# Altium footprint library syhaunguyen.PcbLib: 329 footprints (part 11 of 21)
Each footprint in its own frame and in the unit in brackets; x right, y up, seen from the top. Pads: shape width x height; smd on the part's side, far side on the other; paste and mask are expansions set on the pad; w line width, h text height; cw(c..) or ccw(c..) is an arc to the next point about the centre after c.
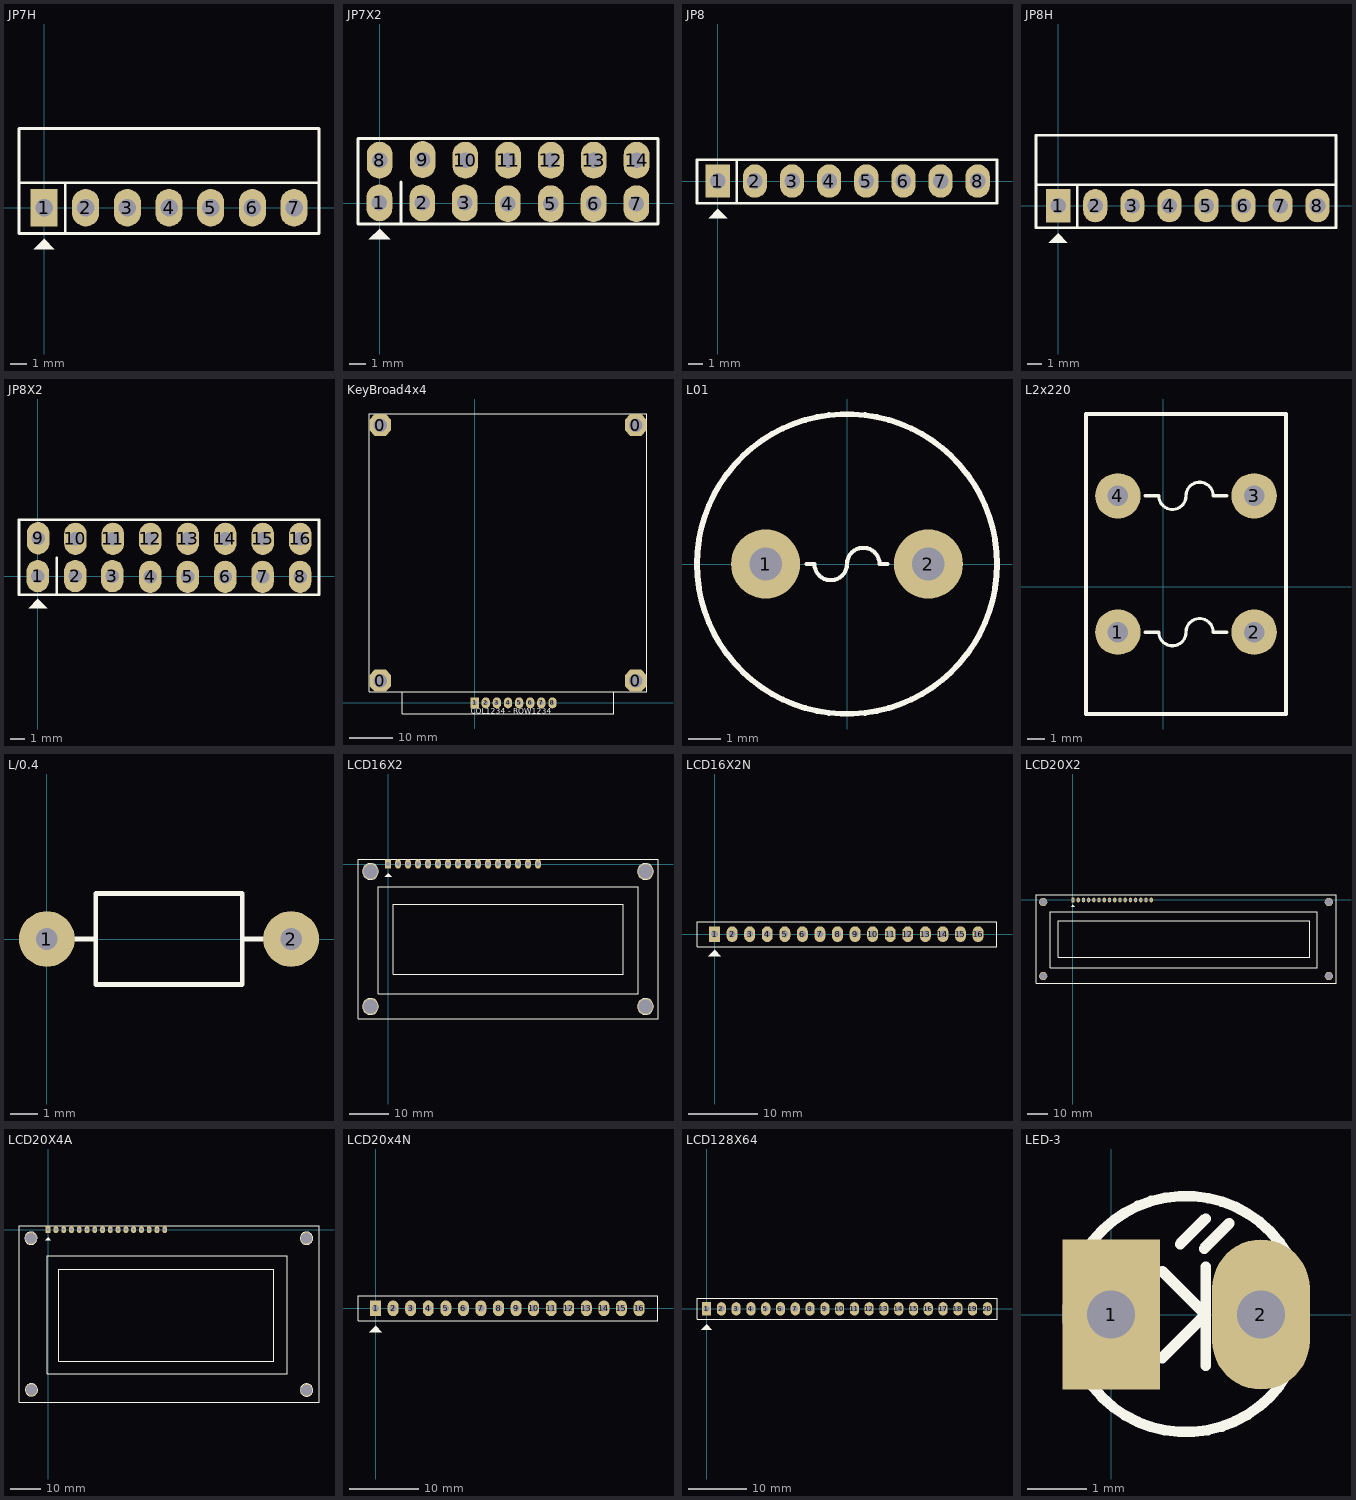
[diagram p10: the footprints below, top view; thin cyan lines are the x and y axes]

## JP7H [mil]
pads (7):
  rect 65x90 hole 42: 1(0,0)
  oval 65x90 hole 42: 2(100,0) 3(200,0) 4(300,0) 5(400,0) 6(500,0) 7(600,0)
Top Overlay:
  region: 0,-75 -25,-100 25,-100
  lines w7: -57,60 660,60 ; -50,60 -60,60 ; 51,-58 51,60 ; -60,60 -60,190 660,190 660,60 ; -60,60 -60,-62 660,-62 660,60
3D body: height 99.03, standoff -93.89, extent -46.06,-24.96 646.07,413.63

## JP7X2 [mil]
pads (14):
  oval 60x86 hole 36: 1(-0.5,0.5) 2(99.5,0.5) 3(198.5,0.5) 4(299.5,-1.5) 5(399.5,-1.5) 6(499.5,-1.5) 7(599.5,-1.5) 8(0,100) 9(100.5,101.5) 10(200,100) 11(300,100) 12(400,100) 13(500,100) 14(600,100)
Top Overlay:
  region: 0,-60 -25,-85 25,-85
  lines w7: 50,-49 50,49 ; -50.5,-49.5 -50.5,50.5 -50.5,150.5 650,150.5 650,-49.5 -50.5,-49.5
3D body: height 335.25, standoff -117.51, extent -49.99,-49.99 650.01,150.01

## JP8 [mil] "JP8"
height 200
pads (8):
  rect 65x90 hole 42: 1(0,0)
  oval 65x90 hole 42: 2(100,0) 3(200,0) 4(300,0) 5(400,0) 6(500,0) 7(600,0) 8(700,0)
Top Overlay:
  region: 0,-75 -25,-100 25,-100
  lines w7: 51,-60 51,56 ; -56,-60 -56,57 752,57 752,-60 -56,-60
3D body: height 323.43, standoff -117.51, extent -48.03,-50 748.03,48.43

## JP8H [mil]
pads (8):
  rect 65x90 hole 42: 1(0,0)
  oval 65x90 hole 42: 2(100,0) 3(200,0) 4(300,0) 5(400,0) 6(500,0) 7(600,0) 8(700,0)
Top Overlay:
  region: 0,-75 -25,-100 25,-100
  lines w7: 51,-60 51,56 ; -60,57 -60,-60 750,-60 750,57 ; -60,57 750,57 ; -60,57 -60,190 750,190 750,57
3D body: height 49.21, standoff -143.7, extent -46.06,-14.96 746.06,423.62

## JP8X2 [mil]
pads (16):
  oval 60x86 hole 36: 1(-0.5,0.5) 2(99.5,0.5) 3(198.5,0.5) 4(299.5,-1.5) 5(399.5,-1.5) 6(499.5,-1.5) 7(599.5,-1.5) 8(699.5,-1.5) 9(0.5,101.5) 10(100,100) 11(200,100) 12(300,100) 13(400,100) 14(500,100) 15(600,100) 16(700,100)
Top Overlay:
  region: 0,-60 -25,-85 25,-85
  lines w7: 50,-49 50,49 ; -50.5,-49.5 -50.5,50.5 -50.5,150.5 750,150.5 750,-49.5 -50.5,-49.5
3D body: height 335.25, standoff -117.51, extent -49.99,-49.99 750.01,150.01

## KeyBroad4x4 [mm] "KeyBroad 4x4"
height 5.08
pads (12):
  oct 5x5 hole 3.048: 0(-21.59,5.08) 0(-21.59,63.5) 0(36.83,5.08) 0(36.83,63.5)
  rect 1.905x2.5 hole 1: 1(0,0)
  oval 1.905x2.5 hole 1: 2(2.54,0) 3(5.08,0) 4(7.62,0) 5(10.16,0) 6(12.7,0) 7(15.24,0) 8(17.78,0)
Top Overlay:
  lines w0.203: -16.51,2.54 -16.51,-2.515 -16.535,-2.54 31.75,-2.54 31.75,2.489 ; -24.13,2.54 -24.13,66.04 39.37,66.04 39.37,2.54 -24.13,2.54
  text "COL1234 - ROW1234" at -0.889,-2.464 h1.27

## L01 [mil] "Inductor"
pads (2):
  round 85 hole 40: 1(-100,0) 2(100,0)
Top Overlay:
  circle w7: c0,0 r184.39
  lines w5: -50,0 -40,0 ccw(c-20,0) 0,0 cw(c20,0) 40,0 50,0

## L2x220 [mil] "Loc 220"
pads (4):
  round 100 hole 45: 1(-100,-100) 2(200,-100) 3(200,200) 4(-100,200)
Top Overlay:
  lines w7: -10,-100 ccw(c20,-100) 50,-100 cw(c80,-100) 110,-100 ; -10,200 ccw(c20,200) 50,200 cw(c80,200) 110,200
  lines w8: -40,-100 -10,-100 ; -40,200 -10,200 ; 110,-100 140,-100 ; 110,200 140,200 ; -170,-280 270,-280 270,380 -170,380 -170,-280

## L/0.4 [mil] "Inductor , 2 Pin, L 350mil, W 150 mil"
height 150
pads (2):
  round 80 hole 31: 1(0,0) 2(350,0)
Top Overlay:
  lines w7: 70,0 40,0 70,0 ; 70,0 70,65 280,65 280,0 ; 70,0 70,-65 280,-65 280,0 ; 280,0 310,0 280,0

## LCD16X2 [mil] "LCD dipslay 16x2, 16 pin"
height 400
pads (20):
  rect 62x90 hole 36: 1(0,0)
  oval 62x90 hole 36: 2(100,0) 3(200,0) 4(300,0) 5(400,0) 6(500,0) 7(600,0) 8(700,0) 9(800,0) 10(900,0) 11(1000,0) 12(1100,0) 13(1200,0) 14(1300,0) 15(1400,0) 16(1500,0)
  round 157.48 hole 137.8: "Hole 0"(-175,-1425) "Hole 0"(-175,-75) "Hole 0"(2575,-1425) "Hole 0"(2575,-75)
Top Overlay:
  circle w7: c2575,-1425 r79.06
  circle w7: c2575,-75 r79.06
  circle w7: c-175,-75 r79.06
  circle w7: c-175,-1425 r79.06
  region: 0,-90 -35,-125 35,-125
  lines w7: -300,-1550 -300,50 2700,50 2700,-1550 -300,-1550 ; -100,-1300 -100,-225 2500,-225 2500,-1300 -100,-1300 ; 50,-1100 50,-400 2350,-400 2350,-1100 50,-1100
3D body: height 414, standoff -106, extent -314.65,-1360 2854.65,77.01

## LCD16X2N [mil] "LCD dipslay 16x2, 16 pin"
height 400
pads (16):
  rect 62x90 hole 39: 1(0,0)
  oval 62x90 hole 39: 2(100,0) 3(200,0) 4(300,0) 5(400,0) 6(500,0) 7(600,0) 8(700,0) 9(800,0) 10(900,0) 11(1000,0) 12(1100,0) 13(1200,0) 14(1300,0) 15(1400,0) 16(1500,0)
Top Overlay:
  region: 0,-90 -35,-125 35,-125
  lines w7: -100,-71 1608,-71 1608,70 -100,70 -100,-71
3D body: height 764, standoff 244, extent -319.64,-1353.49 2849.65,83.51
3D body: height 468.11, standoff -20.08, extent -48.03,-48.43 1548.03,50
3D body: height 276.19, standoff -117.51, extent -50,-44.99 1550,55.01

## LCD20X2 [mil] "LCD dipslay 20x2, 16 pin"
height 400
pads (20):
  rect 62x90 hole 36: 1(0,0)
  oval 62x90 hole 36: 2(100,0) 3(200,0) 4(300,0) 5(400,0) 6(500,0) 7(600,0) 8(700,0) 9(800,0) 10(900,0) 11(1000,0) 12(1100,0) 13(1200,0) 14(1300,0) 15(1400,0) 16(1500,0)
  round 157.48 hole 137.8: "Hole 0"(-570.87,-1456.69) "Hole 0"(-570.87,-39.37) "Hole 0"(4901.57,-1456.69) "Hole 0"(4901.57,-39.37)
Top Overlay:
  region: 0,-90 -35,-125 35,-125
  lines w7: -708.66,-1594.49 5039.37,-1594.49 5039.37,100 -708.66,100 -708.66,-1594.49 ; -436,-1300 4682,-1300 4682,-225 -436,-225 -436,-1300 ; -286,-1100 4532,-1100 4532,-400 -286,-400 -286,-1100
3D body: height 198, standoff -180, extent -100,-1437 4470,33

## LCD20X4A [mil] "LCD dipslay 20x4, 16 pin"
height 400
pads (20):
  rect 62x90 hole 39: 1(0,0)
  oval 62x90 hole 39: 2(100,0) 3(200,0) 4(300,0) 5(400,0) 6(500,0) 7(600,0) 8(700,0) 9(800,0) 10(900,0) 11(1000,0) 12(1100,0) 13(1200,0) 14(1300,0) 15(1400,0) 16(1500,0)
  round 157.48 hole 137.8: "Hole 0"(-220,-110) "Hole 0"(-215,-2060) "Hole 0"(3325,-2065) "Hole 0"(3325,-110)
Top Overlay:
  circle w7: c3324.94,-2063 r79.06
  circle w7: c3324.94,-110 r79.06
  circle w7: c-221.06,-110 r79.06
  circle w7: c-215.06,-2061 r79.06
  region: 0,-100 -35,-135 35,-135
  lines w7: -375,-2220 -375,50 3485,50 3485,-2220 -374,-2220 ; -11,-1852 -11,-337 3076,-337 3076,-1852 -11,-1852 ; 139,-1695 139,-512 2905,-512 2905,-1695 139,-1695
3D body: height 417.32, standoff -125.98, extent -392.13,-2264.2 3466.13,98

## LCD20x4N [mil] "LCD dipslay 20x4, 16 pin"
height 400
pads (16):
  rect 62x90 hole 39: 1(0,0)
  oval 62x90 hole 39: 2(100,0) 3(200,0) 4(300,0) 5(400,0) 6(500,0) 7(600,0) 8(700,0) 9(800,0) 10(900,0) 11(1000,0) 12(1100,0) 13(1200,0) 14(1300,0) 15(1400,0) 16(1500,0)
Top Overlay:
  region: 0,-100 -35,-135 35,-135
  lines w7: -100,-71 1608,-71 1608,70 -100,70 -100,-71
3D body: height 417.32, standoff -125.98, extent -392,-2265.2 3466.27,97

## LCD128X64 [mil] "LCD Graphic 128x64, 20 pin"
height 400
pads (20):
  rect 62x90 hole 39: 1(0,0)
  oval 62x90 hole 39: 2(100,0) 3(200,0) 4(300,0) 5(400,0) 6(500,0) 7(600,0) 8(700,0) 9(800,0) 10(900,0) 11(1000,0) 12(1100,0) 13(1200,0) 14(1300,0) 15(1400,0) 16(1500,0) 17(1600,0) 18(1700,0) 19(1800,0) 20(1900,0)
Top Overlay:
  region: 0,-105 -35,-140 35,-140
  lines w7: -65,-71 -65,70 1965,70 1965,-71 -65,-71
3D body: height 475.59, standoff -130.71, extent -612.8,-2069.98 2536.8,56

## LED-3 [mil] "LED 2 PIN, 3ly Only colour"
height 300
pads (2):
  rect 65x100 hole 32: 1(0,0)
  oval 65x100 hole 32: 2(100,0)
Top Overlay:
  lines w7: 34,-29 63,0 34,29 ; 46,47 63,64 ; 62,44 79,61 ; 63,-34 63,32 ; 117.92,-39.35 117.92,39.84
  lines w7.01: 117.57,-39.74 cw(c49.8,0.35) 117.72,40.19
3D body: height 217.14, standoff -117.51, extent -12.99,-74.8 124.8,74.81